# EAGLE library part STM32F407VE (library lippa)
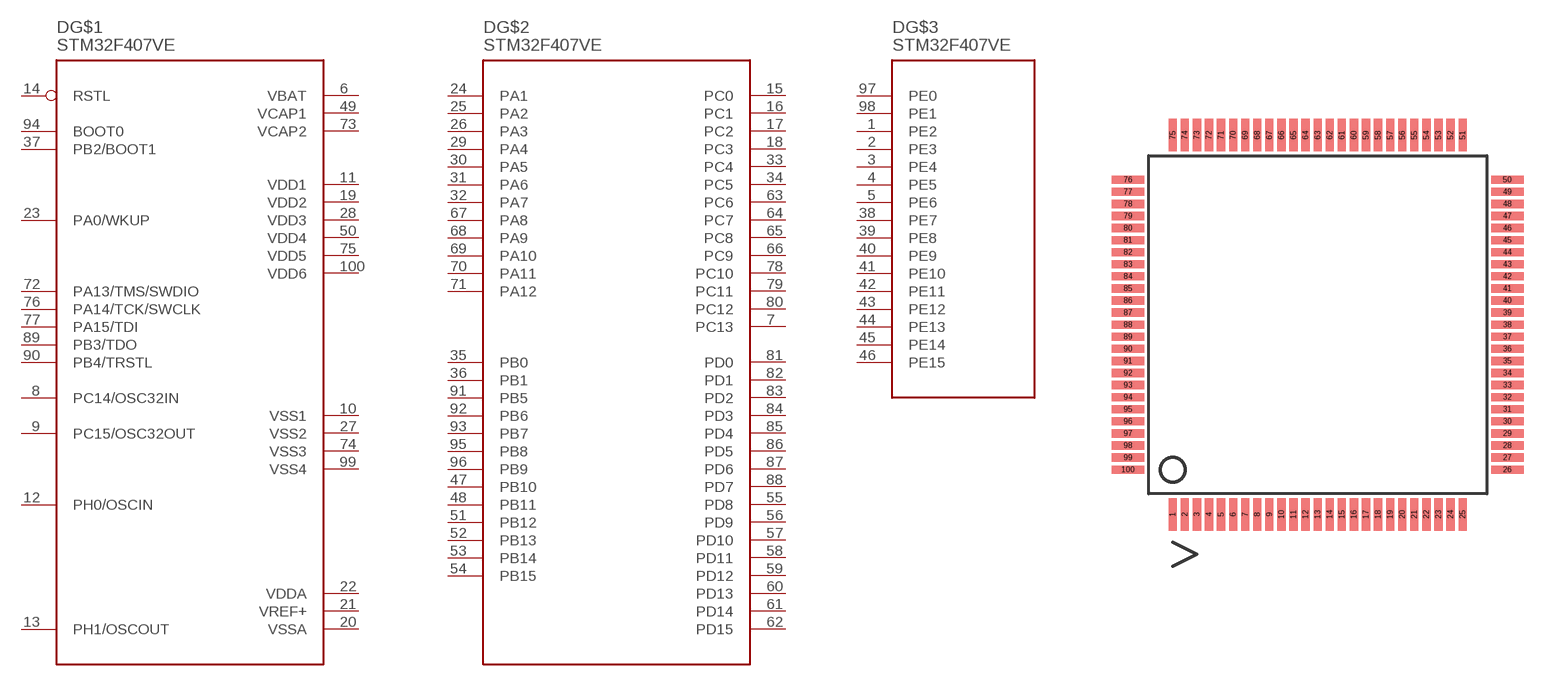
[diagram p2: symbol with the pads of LQFP-100; footprint LQFP-100]

Designator prefix D; gates G$1=STM32F407VE_POWER G$2=STM32F407VE_PABCD G$3=STM32F407VE_PE

## STM32F407VE  [LQFP-100]
1  G$3:PE2
2  G$3:PE3
3  G$3:PE4
4  G$3:PE5
5  G$3:PE6
6  G$1:VBAT
7  G$2:PC13
8  G$1:PC14/OSC32IN
9  G$1:PC15/OSC32OUT
10  G$1:VSS1
11  G$1:VDD1
12  G$1:PH0/OSCIN
13  G$1:PH1/OSCOUT
14  G$1:RSTL
15  G$2:PC0
16  G$2:PC1
17  G$2:PC2
18  G$2:PC3
19  G$1:VDD2
20  G$1:VSSA
21  G$1:VREF+
22  G$1:VDDA
23  G$1:PA0/WKUP
24  G$2:PA1
25  G$2:PA2
26  G$2:PA3
27  G$1:VSS2
28  G$1:VDD3
29  G$2:PA4
30  G$2:PA5
31  G$2:PA6
32  G$2:PA7
33  G$2:PC4
34  G$2:PC5
35  G$2:PB0
36  G$2:PB1
37  G$1:PB2/BOOT1
38  G$3:PE7
39  G$3:PE8
40  G$3:PE9
41  G$3:PE10
42  G$3:PE11
43  G$3:PE12
44  G$3:PE13
45  G$3:PE14
46  G$3:PE15
47  G$2:PB10
48  G$2:PB11
49  G$1:VCAP1
50  G$1:VDD4
51  G$2:PB12
52  G$2:PB13
53  G$2:PB14
54  G$2:PB15
55  G$2:PD8
56  G$2:PD9
57  G$2:PD10
58  G$2:PD11
59  G$2:PD12
60  G$2:PD13
61  G$2:PD14
62  G$2:PD15
63  G$2:PC6
64  G$2:PC7
65  G$2:PC8
66  G$2:PC9
67  G$2:PA8
68  G$2:PA9
69  G$2:PA10
70  G$2:PA11
71  G$2:PA12
72  G$1:PA13/TMS/SWDIO
73  G$1:VCAP2
74  G$1:VSS3
75  G$1:VDD5
76  G$1:PA14/TCK/SWCLK
77  G$1:PA15/TDI
78  G$2:PC10
79  G$2:PC11
80  G$2:PC12
81  G$2:PD0
82  G$2:PD1
83  G$2:PD2
84  G$2:PD3
85  G$2:PD4
86  G$2:PD5
87  G$2:PD6
88  G$2:PD7
89  G$1:PB3/TDO
90  G$1:PB4/TRSTL
91  G$2:PB5
92  G$2:PB6
93  G$2:PB7
94  G$1:BOOT0
95  G$2:PB8
96  G$2:PB9
97  G$3:PE0
98  G$3:PE1
99  G$1:VSS4
100  G$1:VDD6

## Footprint LQFP-100 (pad centres in mm)
smd 0.34 x 1.35: 1 -6,-7.85; 2 -5.5,-7.85; 3 -5,-7.85; 4 -4.5,-7.85; 5 -4,-7.85; 6 -3.5,-7.85; 7 -3,-7.85; 8 -2.5,-7.85; 9 -2,-7.85; 10 -1.5,-7.85; 11 -1,-7.85; 12 -0.5,-7.85; 13 0,-7.85; 14 0.5,-7.85; 15 1,-7.85; 16 1.5,-7.85; 17 2,-7.85; 18 2.5,-7.85; 19 3,-7.85; 20 3.5,-7.85; 21 4,-7.85; 22 4.5,-7.85; 23 5,-7.85; 24 5.5,-7.85; 25 6,-7.85; 51 6,7.85; 52 5.5,7.85; 53 5,7.85; 54 4.5,7.85; 55 4,7.85; 56 3.5,7.85; 57 3,7.85; 58 2.5,7.85; 59 2,7.85; 60 1.5,7.85; 61 1,7.85; 62 0.5,7.85; 63 0,7.85; 64 -0.5,7.85; 65 -1,7.85; 66 -1.5,7.85; 67 -2,7.85; 68 -2.5,7.85; 69 -3,7.85; 70 -3.5,7.85; 71 -4,7.85; 72 -4.5,7.85; 73 -5,7.85; 74 -5.5,7.85; 75 -6,7.85
smd 1.35 x 0.34: 26 7.85,-6; 27 7.85,-5.5; 28 7.85,-5; 29 7.85,-4.5; 30 7.85,-4; 31 7.85,-3.5; 32 7.85,-3; 33 7.85,-2.5; 34 7.85,-2; 35 7.85,-1.5; 36 7.85,-1; 37 7.85,-0.5; 38 7.85,0; 39 7.85,0.5; 40 7.85,1; 41 7.85,1.5; 42 7.85,2; 43 7.85,2.5; 44 7.85,3; 45 7.85,3.5; 46 7.85,4; 47 7.85,4.5; 48 7.85,5; 49 7.85,5.5; 50 7.85,6; 76 -7.85,6; 77 -7.85,5.5; 78 -7.85,5; 79 -7.85,4.5; 80 -7.85,4; 81 -7.85,3.5; 82 -7.85,3; 83 -7.85,2.5; 84 -7.85,2; 85 -7.85,1.5; 86 -7.85,1; 87 -7.85,0.5; 88 -7.85,0; 89 -7.85,-0.5; 90 -7.85,-1; 91 -7.85,-1.5; 92 -7.85,-2; 93 -7.85,-2.5; 94 -7.85,-3; 95 -7.85,-3.5; 96 -7.85,-4; 97 -7.85,-4.5; 98 -7.85,-5; 99 -7.85,-5.5; 100 -7.85,-6